# EAGLE library part ARM7_SUPPORT (library rhoban)
The support used for the ARM7
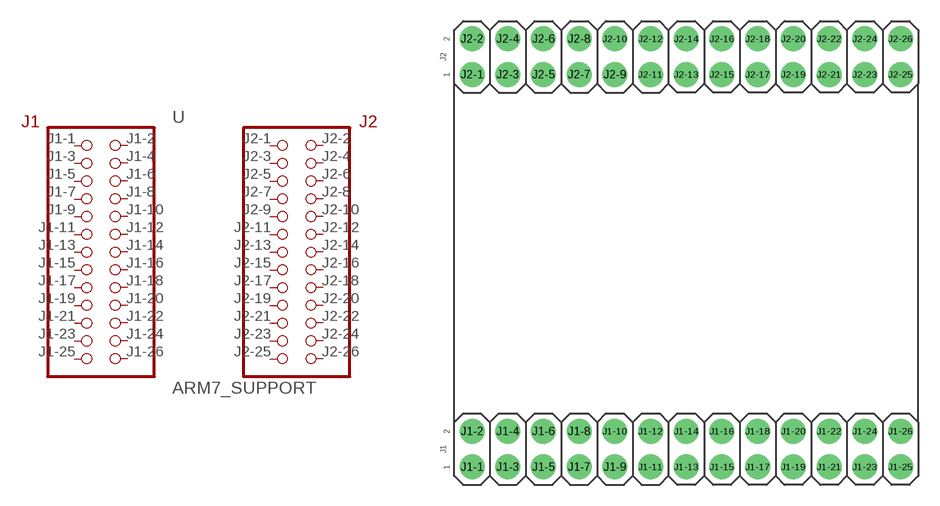
[diagram p1: symbol with the pads of ARM7_SUPPORT; footprint ARM7_SUPPORT]

Designator prefix -

## ARM7_SUPPORT  [ARM7_SUPPORT]
J1-1  1  pas
J1-2  2  pas
J1-3  3  pas
J1-4  4  pas
J1-5  5  pas
J1-6  6  pas
J1-7  7  pas
J1-8  8  pas
J1-9  9  pas
J1-10  10  pas
J1-11  11  pas
J1-12  12  pas
J1-13  13  pas
J1-14  14  pas
J1-15  15  pas
J1-16  16  pas
J1-17  17  pas
J1-18  18  pas
J1-19  19  pas
J1-20  20  pas
J1-21  21  pas
J1-22  22  pas
J1-23  23  pas
J1-24  24  pas
J1-25  25  pas
J1-26  26  pas
J2-1  27  pas
J2-2  28  pas
J2-3  29  pas
J2-4  30  pas
J2-5  31  pas
J2-6  32  pas
J2-7  33  pas
J2-8  34  pas
J2-9  35  pas
J2-10  36  pas
J2-11  37  pas
J2-12  38  pas
J2-13  39  pas
J2-14  40  pas
J2-15  41  pas
J2-16  42  pas
J2-17  43  pas
J2-18  44  pas
J2-19  45  pas
J2-20  46  pas
J2-21  47  pas
J2-22  48  pas
J2-23  49  pas
J2-24  50  pas
J2-25  51  pas
J2-26  52  pas

## Footprint ARM7_SUPPORT (pad centres in mm)
drill 1 pad 1.778: J1-1 1.27,1.27; J1-2 1.27,3.81; J1-3 3.81,1.27; J1-4 3.81,3.81; J1-5 6.35,1.27; J1-6 6.35,3.81; J1-7 8.89,1.27; J1-8 8.89,3.81; J1-9 11.43,1.27; J1-10 11.43,3.81; J1-11 13.97,1.27; J1-12 13.97,3.81; J1-13 16.51,1.27; J1-14 16.51,3.81; J1-15 19.05,1.27; J1-16 19.05,3.81; J1-17 21.59,1.27; J1-18 21.59,3.81; J1-19 24.13,1.27; J1-20 24.13,3.81; J1-21 26.67,1.27; J1-22 26.67,3.81; J1-23 29.21,1.27; J1-24 29.21,3.81; J1-25 31.75,1.27; J1-26 31.75,3.81; J2-1 1.27,29.21; J2-2 1.27,31.75; J2-3 3.81,29.21; J2-4 3.81,31.75; J2-5 6.35,29.21; J2-6 6.35,31.75; J2-7 8.89,29.21; J2-8 8.89,31.75; J2-9 11.43,29.21; J2-10 11.43,31.75; J2-11 13.97,29.21; J2-12 13.97,31.75; J2-13 16.51,29.21; J2-14 16.51,31.75; J2-15 19.05,29.21; J2-16 19.05,31.75; J2-17 21.59,29.21; J2-18 21.59,31.75; J2-19 24.13,29.21; J2-20 24.13,31.75; J2-21 26.67,29.21; J2-22 26.67,31.75; J2-23 29.21,29.21; J2-24 29.21,31.75; J2-25 31.75,29.21; J2-26 31.75,31.75